# Altium footprint library JUMMPER_NO_0805.PcbLib: 1 footprints
Each footprint in its own frame and in the unit in brackets; x right, y up, seen from the top. Pads: shape width x height; smd on the part's side, far side on the other; paste and mask are expansions set on the pad; w line width, h text height; cw(c..) or ccw(c..) is an arc to the next point about the centre after c.
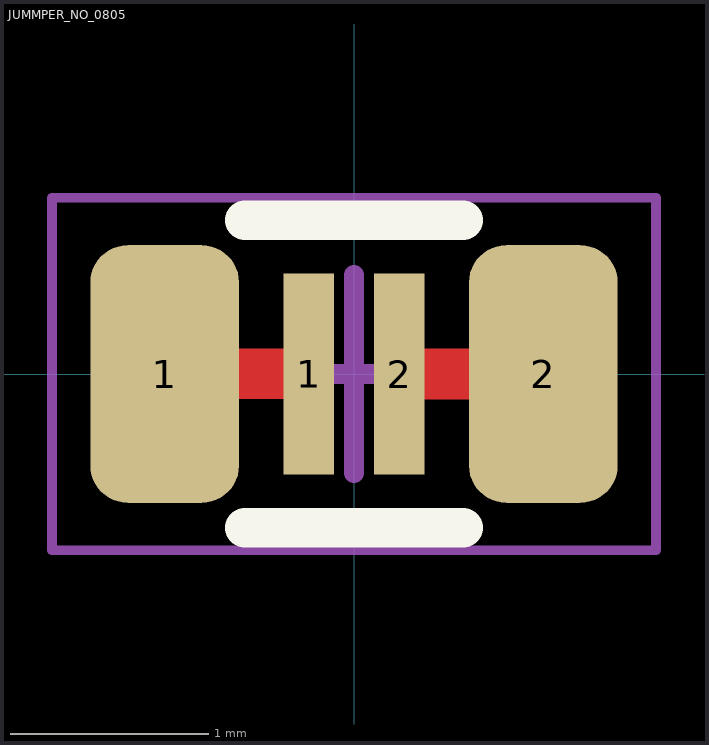
[diagram p0: the footprint, top view; thin cyan lines are the x and y axes]

## JUMMPER_NO_0805 [mil]
pads (4):
  rrect50% 29.53x51.18 smd: 1(-37.6,0) 2(37.6,0)
  rect 10x40 smd: 1(-9,0) 2(9,0)
Top Layer:
  region: 5,-5 5,5 30,5 30,-5
  region: -5.06,-4.94 -5.06,5.06 -30.06,5.06 -30.06,-4.94
Top Overlay:
  lines w7.87: -21.65,-30.51 21.65,-30.51 ; -21.65,30.51 21.65,30.51
Mechanical 15:
  lines w1.97: -60,-35 60,-35 60,35 -60,35 -60,-35
  lines w3.94: -19.69,0 19.68,0 ; 0,-19.69 0,19.68